# EAGLE library part ADXL330 (library m-pad)
Analog Devices ADXL330 Small, Low Power, 3-Axis ±3 g i MEMS Accelerometer Description: The ADXL330 is a small, thin, low power, complete three axis accelerometer with signal conditioned voltage outputs, all on a single monolithic IC. The product measures acceleration with a minimum full-scale range of ±3 g. It can measure the static acceleration of gravity in tilt-sensing applications, as well as dynamic acceleration resulting from motion, shock, or vibration. The user selects the bandwidth of the accelerometer using the CX, CY, and CZ capacitors at the XOUT, YOUT, and ZOUT pins. Bandwidths can be selected to suit the application, with a range of 0.5 Hz to 1,600 Hz for X and Y axes, and a range of 0.5 Hz to 550 Hz for the Z axis. The ADXL330 is available in a small, low-profile, 4 mm × 4 mm × 1.45 mm, 16-lead, plastic lead frame chip scale package (LFCSP_LQ). Features: 3-axis sensing Small, low-profile package - 4 mm × 4 mm × 1.45 mm LFCSP Low power - 200 ?A at VS = 2.0 V (typical) Single-supply operation - 2.0 V to 3.6 V 10,000 g shock survival Excellent temperature stability BW adjustment with a single capacitor per axis RoHS/WEEE lead-free compliant Applications: Cost-sensitive, low power, motion- and tilt-sensing applications - Mobile devices - Gaming systems - Disk drive protection - Image stabilization - Sports and health devices Please send any comments to: messi@users.sourceforge.net
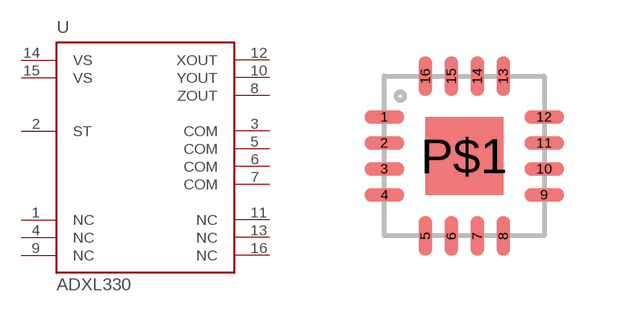
[diagram p153: symbol with the pads of LFCSP-16; footprint LFCSP-16]

Designator prefix U

## ADXL330  [LFCSP-16]
1  NC  nc
2  ST  in
3  COM  pwr
4  NC  nc
5  COM  pwr
6  COM  pwr
7  COM  pwr
8  ZOUT  out
9  NC  nc
10  YOUT  out
11  NC  nc
12  XOUT  out
13  NC  nc
14  VS  pwr
15  VS  pwr
16  NC  nc

## Footprint LFCSP-16 (pad centres in mm)
LFCSP-16 package for ADXL330 from Analog Devices
smd 1 x 0.35: 1 -2,0.975; 2 -2,0.325; 3 -2,-0.325; 4 -2,-0.975; 9 2,-0.975; 10 2,-0.325; 11 2,0.325; 12 2,0.975
smd 0.35 x 1: 5 -0.975,-2; 6 -0.325,-2; 7 0.325,-2; 8 0.975,-2; 13 0.975,2; 14 0.325,2; 15 -0.325,2; 16 -0.975,2
smd 1.95 x 1.95: P$1 0,0